# Altium integrated library National Semiconductor Interface.IntLib: 1433 symbols (part 9 of 51)
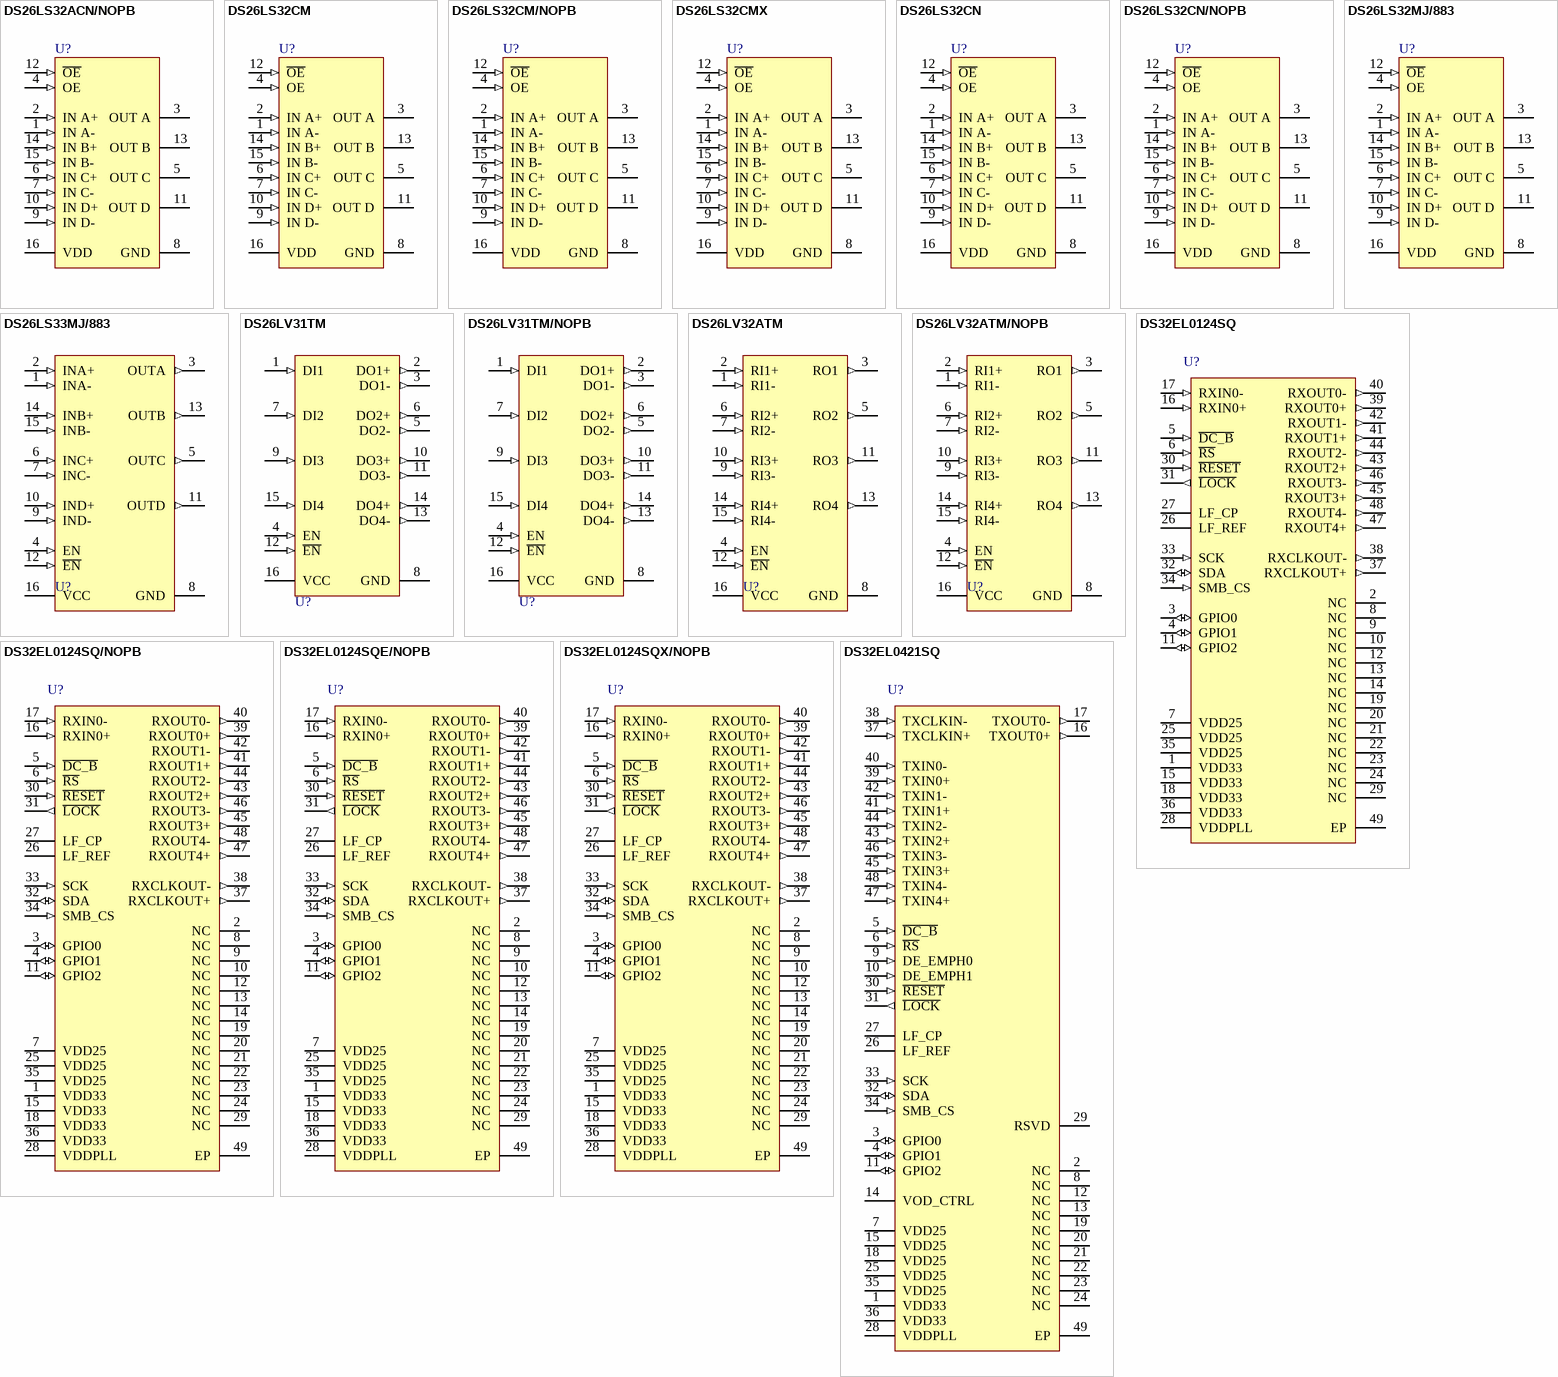
[diagram p132: symbols DS26LS32ACN/NOPB to DS32EL0421SQ]

## DS26LV32ATM
designator U?
3V Enhanced CMOS Quad Differential Line Receiver, 16-pin Narrow SOIC; PartNumber: DS26LV32ATM; Manufacturer: National Semiconductor; PackageTopMarking: NSUZXYTTE#*DS26LV32A*TM; PowerWise: N; CompType: Interface IC; High-Reliability: Y; DatasheetVersion: Apr-2008; PackageVersion: revJ, Aug-1995; PackageReference: M16A; PackageDescription: Molded Package, SO, .150in Wide, 16 Lead; RoHS: N; PinCount: 16; Code_JEDEC: MS-012-AC; Code_IPC: SOIC127P600-16; ComponentLink1Description: Manufacturer URL; ComponentLink1URL: http://www.national.com/; ComponentLink2Description: DS26LV32AT Datasheet; ComponentLink2URL: http://www.national.com/ds/DS/DS26LV32AT.pdf; ComponentLink3Description: DS26LV32AT Web Page; ComponentLink3URL: http://www.national.com/pf/DS/DS26LV32AT.html; ComponentLink4Description: M16A Package Page; ComponentLink4URL: http://www.national.com/packaging/folders/m16a.html
footprint M16A_N (SOIC, 16-Leads, Body 9.9x3.9mm, Pitch 1.27mm, IPC Medium Density)
footprint M16A_L (SOIC, 16-Leads, Body 9.9x3.9mm, Pitch 1.27mm, IPC High Density)
footprint M16A_M (SOIC, 16-Leads, Body 9.9x3.9mm, Pitch 1.27mm, IPC Low Density)
pins: 1 RI1- (in), 2 RI1+ (in), 3 RO1 (out), 4 EN (in), 5 RO2 (out), 6 RI2+ (in), 7 RI2- (in), 8 GND (power), 9 RI3- (in), 10 RI3+ (in), 11 RO3 (out), 12 ~{EN} (in), 13 RO4 (out), 14 RI4+ (in), 15 RI4- (in), 16 VCC (power)

## DS26LV32ATM/NOPB
designator U?
3V Enhanced CMOS Quad Differential Line Receiver, 16-pin Narrow SOIC, Pb-Free; PartNumber: DS26LV32ATM/NOPB; Manufacturer: National Semiconductor; PackageTopMarking: NSUZXYTTE#*DS26LV32A*TM; PowerWise: N; CompType: Interface IC; High-Reliability: Y; DatasheetVersion: Apr-2008; PackageVersion: revJ, Aug-1995; PackageReference: M16A; PackageDescription: Molded Package, SO, .150in Wide, 16 Lead; RoHS: Y; PinCount: 16; Code_JEDEC: MS-012-AC; Code_IPC: SOIC127P600-16; ComponentLink1Description: Manufacturer URL; ComponentLink1URL: http://www.national.com/; ComponentLink2Description: DS26LV32AT Datasheet; ComponentLink2URL: http://www.national.com/ds/DS/DS26LV32AT.pdf; ComponentLink3Description: DS26LV32AT Web Page; ComponentLink3URL: http://www.national.com/pf/DS/DS26LV32AT.html; ComponentLink4Description: M16A Package Page; ComponentLink4URL: http://www.national.com/packaging/folders/m16a.html
footprint M16A_N (SOIC, 16-Leads, Body 9.9x3.9mm, Pitch 1.27mm, IPC Medium Density)
footprint M16A_L (SOIC, 16-Leads, Body 9.9x3.9mm, Pitch 1.27mm, IPC High Density)
footprint M16A_M (SOIC, 16-Leads, Body 9.9x3.9mm, Pitch 1.27mm, IPC Low Density)
pins: 1 RI1- (in), 2 RI1+ (in), 3 RO1 (out), 4 EN (in), 5 RO2 (out), 6 RI2+ (in), 7 RI2- (in), 8 GND (power), 9 RI3- (in), 10 RI3+ (in), 11 RO3 (out), 12 ~{EN} (in), 13 RO4 (out), 14 RI4+ (in), 15 RI4- (in), 16 VCC (power)

## DS32EL0124SQ
designator U?
125 - 312.5 MHz Deserializer with DDR LVDS Parallel Interface, 48-pin LLP; PartNumber: DS32EL0124SQ; Manufacturer: National Semiconductor; PackageTopMarking: NS*UZXYTT*32EL0124; PowerWise: N; CompType: Interface IC; High-Reliability: Y; DatasheetVersion: Jul-2008; PackageVersion: revB, May-2009; PackageReference: SQA48A; PackageDescription: LLP, Plastic, Quad, 7 x 7 x 0.8mm Body, 48 Lead, 0.5mm Pitch, No Pullback; RoHS: Y; PinCount: 48; Code_JEDEC: MO-220-WKKD-2; ComponentLink1Description: Manufacturer URL; ComponentLink1URL: http://www.national.com/; ComponentLink2Description: DS32EL0124 Datasheet; ComponentLink2URL: http://www.national.com/ds/DS/DS32EL0124.pdf; ComponentLink3Description: DS32EL0124 Web Page; ComponentLink3URL: http://www.national.com/pf/DS/DS32EL0124.html; ComponentLink4Description: SQA48A Package Page; ComponentLink4URL: http://www.national.com/packaging/folders/sqa48a.html
footprint SQA48A (QFN, 48-Leads, Body 7x7mm, Pitch 0.5mm, Thermal Pad 5.2x5.2mm, NSC Recommended)
pins: 1 VDD33 (power), 2 NC, 3 GPIO0 (io), 4 GPIO1 (io), 5 ~{DC_B} (in), 6 ~{RS} (in), 7 VDD25 (power), 8 NC, 9 NC, 10 NC, 11 GPIO2 (io), 12 NC, 13 NC, 14 NC, 15 VDD33 (power), 16 RXIN0+ (in), 17 RXIN0- (in), 18 VDD33 (power), 19 NC, 20 NC, 21 NC, 22 NC, 23 NC, 24 NC, 25 VDD25 (power), 26 LF_REF, 27 LF_CP, 28 VDDPLL (power), 29 NC, 30 ~{RESET} (in), 31 ~{LOCK} (out), 32 SDA (io), 33 SCK (in), 34 SMB_CS (in), 35 VDD25 (power), 36 VDD33 (power), 37 RXCLKOUT+ (out), 38 RXCLKOUT- (out), 39 RXOUT0+ (out), 40 RXOUT0- (out), 41 RXOUT1+ (out), 42 RXOUT1- (out), 43 RXOUT2+ (out), 44 RXOUT2- (out), 45 RXOUT3+ (out), 46 RXOUT3- (out), 47 RXOUT4+ (out), 48 RXOUT4- (out), 49 EP (power)

## DS32EL0124SQ/NOPB
designator U?
125 - 312.5 MHz Deserializer with DDR LVDS Parallel Interface, 48-pin LLP, Pb-Free; PartNumber: DS32EL0124SQ/NOPB; Manufacturer: National Semiconductor; PackageTopMarking: NS*UZXYTTE#*32EL0124; PowerWise: N; CompType: Interface IC; High-Reliability: Y; DatasheetVersion: Jul-2008; PackageVersion: revB, May-2009; PackageReference: SQA48A; PackageDescription: LLP, Plastic, Quad, 7 x 7 x 0.8mm Body, 48 Lead, 0.5mm Pitch, No Pullback; RoHS: Y; PinCount: 48; Code_JEDEC: MO-220-WKKD-2; ComponentLink1Description: Manufacturer URL; ComponentLink1URL: http://www.national.com/; ComponentLink2Description: DS32EL0124 Datasheet; ComponentLink2URL: http://www.national.com/ds/DS/DS32EL0124.pdf; ComponentLink3Description: DS32EL0124 Web Page; ComponentLink3URL: http://www.national.com/pf/DS/DS32EL0124.html; ComponentLink4Description: SQA48A Package Page; ComponentLink4URL: http://www.national.com/packaging/folders/sqa48a.html
footprint SQA48A (QFN, 48-Leads, Body 7x7mm, Pitch 0.5mm, Thermal Pad 5.2x5.2mm, NSC Recommended)
pins: 1 VDD33 (power), 2 NC, 3 GPIO0 (io), 4 GPIO1 (io), 5 ~{DC_B} (in), 6 ~{RS} (in), 7 VDD25 (power), 8 NC, 9 NC, 10 NC, 11 GPIO2 (io), 12 NC, 13 NC, 14 NC, 15 VDD33 (power), 16 RXIN0+ (in), 17 RXIN0- (in), 18 VDD33 (power), 19 NC, 20 NC, 21 NC, 22 NC, 23 NC, 24 NC, 25 VDD25 (power), 26 LF_REF, 27 LF_CP, 28 VDDPLL (power), 29 NC, 30 ~{RESET} (in), 31 ~{LOCK} (out), 32 SDA (io), 33 SCK (in), 34 SMB_CS (in), 35 VDD25 (power), 36 VDD33 (power), 37 RXCLKOUT+ (out), 38 RXCLKOUT- (out), 39 RXOUT0+ (out), 40 RXOUT0- (out), 41 RXOUT1+ (out), 42 RXOUT1- (out), 43 RXOUT2+ (out), 44 RXOUT2- (out), 45 RXOUT3+ (out), 46 RXOUT3- (out), 47 RXOUT4+ (out), 48 RXOUT4- (out), 49 EP (power)

## DS32EL0124SQE/NOPB
designator U?
125 - 312.5 MHz Deserializer with DDR LVDS Parallel Interface, 48-pin LLP, Pb-Free; PartNumber: DS32EL0124SQE/NOPB; Manufacturer: National Semiconductor; PackageTopMarking: NS*UZXYTTE#*32EL0124; PowerWise: N; CompType: Interface IC; High-Reliability: Y; DatasheetVersion: Jul-2008; PackageVersion: revB, May-2009; PackageReference: SQA48A; PackageDescription: LLP, Plastic, Quad, 7 x 7 x 0.8mm Body, 48 Lead, 0.5mm Pitch, No Pullback; RoHS: Y; PinCount: 48; Code_JEDEC: MO-220-WKKD-2; ComponentLink1Description: Manufacturer URL; ComponentLink1URL: http://www.national.com/; ComponentLink2Description: DS32EL0124 Datasheet; ComponentLink2URL: http://www.national.com/ds/DS/DS32EL0124.pdf; ComponentLink3Description: DS32EL0124 Web Page; ComponentLink3URL: http://www.national.com/pf/DS/DS32EL0124.html; ComponentLink4Description: SQA48A Package Page; ComponentLink4URL: http://www.national.com/packaging/folders/sqa48a.html
footprint SQA48A (QFN, 48-Leads, Body 7x7mm, Pitch 0.5mm, Thermal Pad 5.2x5.2mm, NSC Recommended)
pins: 1 VDD33 (power), 2 NC, 3 GPIO0 (io), 4 GPIO1 (io), 5 ~{DC_B} (in), 6 ~{RS} (in), 7 VDD25 (power), 8 NC, 9 NC, 10 NC, 11 GPIO2 (io), 12 NC, 13 NC, 14 NC, 15 VDD33 (power), 16 RXIN0+ (in), 17 RXIN0- (in), 18 VDD33 (power), 19 NC, 20 NC, 21 NC, 22 NC, 23 NC, 24 NC, 25 VDD25 (power), 26 LF_REF, 27 LF_CP, 28 VDDPLL (power), 29 NC, 30 ~{RESET} (in), 31 ~{LOCK} (out), 32 SDA (io), 33 SCK (in), 34 SMB_CS (in), 35 VDD25 (power), 36 VDD33 (power), 37 RXCLKOUT+ (out), 38 RXCLKOUT- (out), 39 RXOUT0+ (out), 40 RXOUT0- (out), 41 RXOUT1+ (out), 42 RXOUT1- (out), 43 RXOUT2+ (out), 44 RXOUT2- (out), 45 RXOUT3+ (out), 46 RXOUT3- (out), 47 RXOUT4+ (out), 48 RXOUT4- (out), 49 EP (power)

## DS32EL0124SQX/NOPB
designator U?
125 - 312.5 MHz Deserializer with DDR LVDS Parallel Interface, 48-pin LLP, Pb-Free; PartNumber: DS32EL0124SQX/NOPB; Manufacturer: National Semiconductor; PackageTopMarking: NS*UZXYTTE#*32EL0124; PowerWise: N; CompType: Interface IC; High-Reliability: Y; DatasheetVersion: Jul-2008; PackageVersion: revB, May-2009; PackageReference: SQA48A; PackageDescription: LLP, Plastic, Quad, 7 x 7 x 0.8mm Body, 48 Lead, 0.5mm Pitch, No Pullback; RoHS: Y; PinCount: 48; Code_JEDEC: MO-220-WKKD-2; ComponentLink1Description: Manufacturer URL; ComponentLink1URL: http://www.national.com/; ComponentLink2Description: DS32EL0124 Datasheet; ComponentLink2URL: http://www.national.com/ds/DS/DS32EL0124.pdf; ComponentLink3Description: DS32EL0124 Web Page; ComponentLink3URL: http://www.national.com/pf/DS/DS32EL0124.html; ComponentLink4Description: SQA48A Package Page; ComponentLink4URL: http://www.national.com/packaging/folders/sqa48a.html
footprint SQA48A (QFN, 48-Leads, Body 7x7mm, Pitch 0.5mm, Thermal Pad 5.2x5.2mm, NSC Recommended)
pins: 1 VDD33 (power), 2 NC, 3 GPIO0 (io), 4 GPIO1 (io), 5 ~{DC_B} (in), 6 ~{RS} (in), 7 VDD25 (power), 8 NC, 9 NC, 10 NC, 11 GPIO2 (io), 12 NC, 13 NC, 14 NC, 15 VDD33 (power), 16 RXIN0+ (in), 17 RXIN0- (in), 18 VDD33 (power), 19 NC, 20 NC, 21 NC, 22 NC, 23 NC, 24 NC, 25 VDD25 (power), 26 LF_REF, 27 LF_CP, 28 VDDPLL (power), 29 NC, 30 ~{RESET} (in), 31 ~{LOCK} (out), 32 SDA (io), 33 SCK (in), 34 SMB_CS (in), 35 VDD25 (power), 36 VDD33 (power), 37 RXCLKOUT+ (out), 38 RXCLKOUT- (out), 39 RXOUT0+ (out), 40 RXOUT0- (out), 41 RXOUT1+ (out), 42 RXOUT1- (out), 43 RXOUT2+ (out), 44 RXOUT2- (out), 45 RXOUT3+ (out), 46 RXOUT3- (out), 47 RXOUT4+ (out), 48 RXOUT4- (out), 49 EP (power)

## DS32EL0421SQ
designator U?
125 - 312.5 MHz Serializer with DDR LVDS Parallel LVDS Interface, 48-pin LLP; PartNumber: DS32EL0421SQ; Manufacturer: National Semiconductor; PackageTopMarking: NS*UZXYTT*32EL0421; PowerWise: N; CompType: Interface IC; High-Reliability: Y; DatasheetVersion: Jul-2008; PackageVersion: revB, May-2009; PackageReference: SQA48A; PackageDescription: LLP, Plastic, Quad, 7 x 7 x 0.8mm Body, 48 Lead, 0.5mm Pitch, No Pullback; RoHS: Y; PinCount: 48; Code_JEDEC: MO-220-WKKD-2; ComponentLink1Description: Manufacturer URL; ComponentLink1URL: http://www.national.com/; ComponentLink2Description: DS32EL0421 Datasheet; ComponentLink2URL: http://www.national.com/ds/DS/DS32EL0421.pdf; ComponentLink3Description: DS32EL0421 Web Page; ComponentLink3URL: http://www.national.com/pf/DS/DS32EL0421.html; ComponentLink4Description: SQA48A Package Page; ComponentLink4URL: http://www.national.com/packaging/folders/sqa48a.html
footprint SQA48A (QFN, 48-Leads, Body 7x7mm, Pitch 0.5mm, Thermal Pad 5.2x5.2mm, NSC Recommended)
pins: 1 VDD33 (power), 2 NC, 3 GPIO0 (io), 4 GPIO1 (io), 5 ~{DC_B} (in), 6 ~{RS} (in), 7 VDD25 (power), 8 NC, 9 DE_EMPH0 (in), 10 DE_EMPH1 (in), 11 GPIO2 (io), 12 NC, 13 NC, 14 VOD_CTRL, 15 VDD25 (power), 16 TXOUT0+ (out), 17 TXOUT0- (out), 18 VDD25 (power), 19 NC, 20 NC, 21 NC, 22 NC, 23 NC, 24 NC, 25 VDD25 (power), 26 LF_REF, 27 LF_CP, 28 VDDPLL (power), 29 RSVD, 30 ~{RESET} (in), 31 ~{LOCK} (out), 32 SDA (io), 33 SCK (in), 34 SMB_CS (in), 35 VDD25 (power), 36 VDD33 (power), 37 TXCLKIN+ (in), 38 TXCLKIN- (in), 39 TXIN0+ (in), 40 TXIN0- (in), 41 TXIN1+ (in), 42 TXIN1- (in), 43 TXIN2+ (in), 44 TXIN2- (in), 45 TXIN3+ (in), 46 TXIN3- (in), 47 TXIN4+ (in), 48 TXIN4- (in), 49 EP (power)

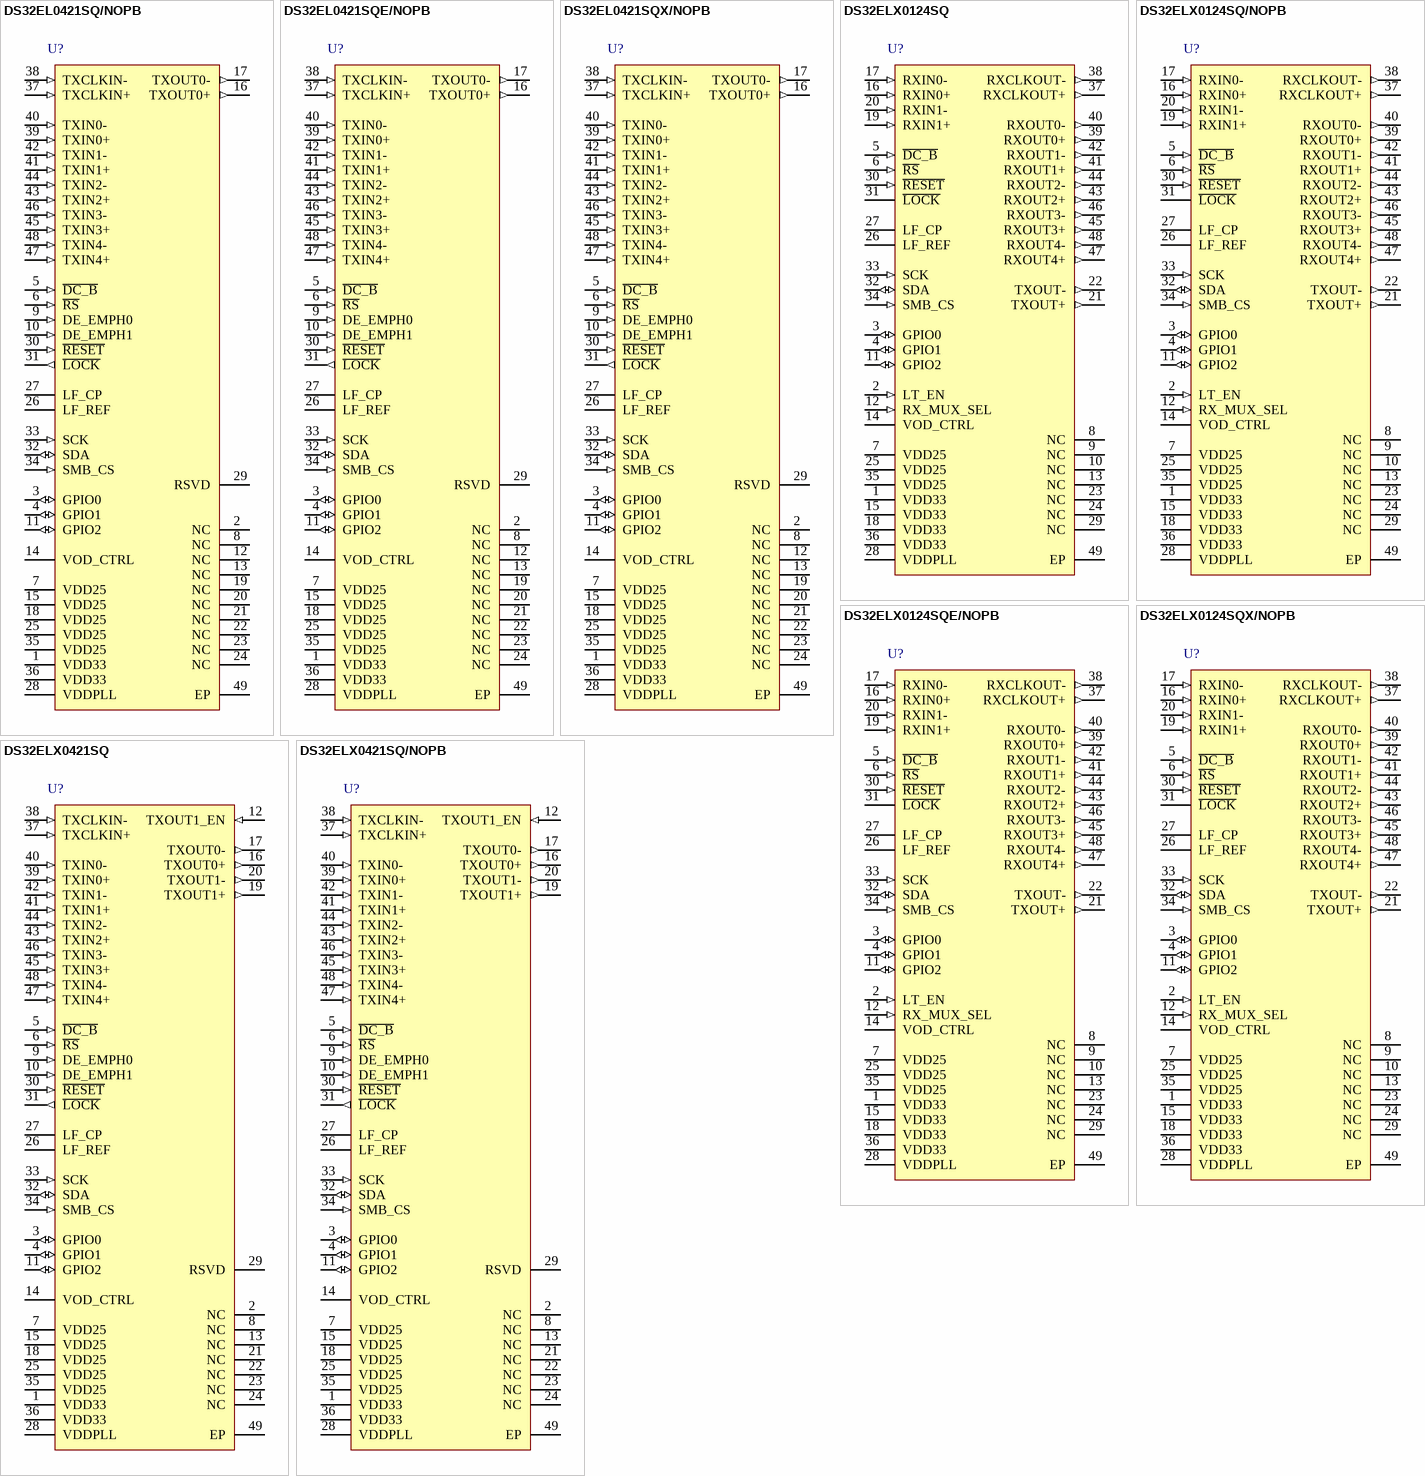
[diagram p23: symbols DS32EL0421SQ/NOPB to DS32ELX0421SQ/NOPB]

## DS32EL0421SQ/NOPB
designator U?
125 - 312.5 MHz FPGA-Link Serializer with DDR LVDS Parallel Interface, 48-pin LLP, Pb-Free; PartNumber: DS32EL0421SQ/NOPB; Manufacturer: National Semiconductor; PackageTopMarking: NS*UZXYTTE#*32EL0421; PowerWise: N; CompType: Interface IC; High-Reliability: Y; DatasheetVersion: Jul-2008; PackageVersion: revB, May-2009; PackageReference: SQA48A; PackageDescription: LLP, Plastic, Quad, 7 x 7 x 0.8mm Body, 48 Lead, 0.5mm Pitch, No Pullback; RoHS: Y; PinCount: 48; Code_JEDEC: MO-220-WKKD-2; ComponentLink1Description: Manufacturer URL; ComponentLink1URL: http://www.national.com/; ComponentLink2Description: DS32EL0421 Datasheet; ComponentLink2URL: http://www.national.com/ds/DS/DS32EL0421.pdf; ComponentLink3Description: DS32EL0421 Web Page; ComponentLink3URL: http://www.national.com/pf/DS/DS32EL0421.html; ComponentLink4Description: SQA48A Package Page; ComponentLink4URL: http://www.national.com/packaging/folders/sqa48a.html
footprint SQA48A (QFN, 48-Leads, Body 7x7mm, Pitch 0.5mm, Thermal Pad 5.2x5.2mm, NSC Recommended)
pins: 1 VDD33 (power), 2 NC, 3 GPIO0 (io), 4 GPIO1 (io), 5 ~{DC_B} (in), 6 ~{RS} (in), 7 VDD25 (power), 8 NC, 9 DE_EMPH0 (in), 10 DE_EMPH1 (in), 11 GPIO2 (io), 12 NC, 13 NC, 14 VOD_CTRL, 15 VDD25 (power), 16 TXOUT0+ (out), 17 TXOUT0- (out), 18 VDD25 (power), 19 NC, 20 NC, 21 NC, 22 NC, 23 NC, 24 NC, 25 VDD25 (power), 26 LF_REF, 27 LF_CP, 28 VDDPLL (power), 29 RSVD, 30 ~{RESET} (in), 31 ~{LOCK} (out), 32 SDA (io), 33 SCK (in), 34 SMB_CS (in), 35 VDD25 (power), 36 VDD33 (power), 37 TXCLKIN+ (in), 38 TXCLKIN- (in), 39 TXIN0+ (in), 40 TXIN0- (in), 41 TXIN1+ (in), 42 TXIN1- (in), 43 TXIN2+ (in), 44 TXIN2- (in), 45 TXIN3+ (in), 46 TXIN3- (in), 47 TXIN4+ (in), 48 TXIN4- (in), 49 EP (power)

## DS32EL0421SQE/NOPB
designator U?
125 - 312.5 MHz FPGA-Link Serializer with DDR LVDS Parallel Interface, 48-pin LLP, Pb-Free; PartNumber: DS32EL0421SQE/NOPB; Manufacturer: National Semiconductor; PackageTopMarking: NS*UZXYTTE#*32EL0421; PowerWise: N; CompType: Interface IC; High-Reliability: Y; DatasheetVersion: Jul-2008; PackageVersion: revB, May-2009; PackageReference: SQA48A; PackageDescription: LLP, Plastic, Quad, 7 x 7 x 0.8mm Body, 48 Lead, 0.5mm Pitch, No Pullback; RoHS: Y; PinCount: 48; Code_JEDEC: MO-220-WKKD-2; ComponentLink1Description: Manufacturer URL; ComponentLink1URL: http://www.national.com/; ComponentLink2Description: DS32EL0421 Datasheet; ComponentLink2URL: http://www.national.com/ds/DS/DS32EL0421.pdf; ComponentLink3Description: DS32EL0421 Web Page; ComponentLink3URL: http://www.national.com/pf/DS/DS32EL0421.html; ComponentLink4Description: SQA48A Package Page; ComponentLink4URL: http://www.national.com/packaging/folders/sqa48a.html
footprint SQA48A (QFN, 48-Leads, Body 7x7mm, Pitch 0.5mm, Thermal Pad 5.2x5.2mm, NSC Recommended)
pins: 1 VDD33 (power), 2 NC, 3 GPIO0 (io), 4 GPIO1 (io), 5 ~{DC_B} (in), 6 ~{RS} (in), 7 VDD25 (power), 8 NC, 9 DE_EMPH0 (in), 10 DE_EMPH1 (in), 11 GPIO2 (io), 12 NC, 13 NC, 14 VOD_CTRL, 15 VDD25 (power), 16 TXOUT0+ (out), 17 TXOUT0- (out), 18 VDD25 (power), 19 NC, 20 NC, 21 NC, 22 NC, 23 NC, 24 NC, 25 VDD25 (power), 26 LF_REF, 27 LF_CP, 28 VDDPLL (power), 29 RSVD, 30 ~{RESET} (in), 31 ~{LOCK} (out), 32 SDA (io), 33 SCK (in), 34 SMB_CS (in), 35 VDD25 (power), 36 VDD33 (power), 37 TXCLKIN+ (in), 38 TXCLKIN- (in), 39 TXIN0+ (in), 40 TXIN0- (in), 41 TXIN1+ (in), 42 TXIN1- (in), 43 TXIN2+ (in), 44 TXIN2- (in), 45 TXIN3+ (in), 46 TXIN3- (in), 47 TXIN4+ (in), 48 TXIN4- (in), 49 EP (power)

## DS32EL0421SQX/NOPB
designator U?
125 - 312.5 MHz FPGA-Link Serializer with DDR LVDS Parallel Interface, 48-pin LLP, Pb-Free; PartNumber: DS32EL0421SQX/NOPB; Manufacturer: National Semiconductor; PackageTopMarking: NS*UZXYTTE#*32EL0421; PowerWise: N; CompType: Interface IC; High-Reliability: Y; DatasheetVersion: Jul-2008; PackageVersion: revB, May-2009; PackageReference: SQA48A; PackageDescription: LLP, Plastic, Quad, 7 x 7 x 0.8mm Body, 48 Lead, 0.5mm Pitch, No Pullback; RoHS: Y; PinCount: 48; Code_JEDEC: MO-220-WKKD-2; ComponentLink1Description: Manufacturer URL; ComponentLink1URL: http://www.national.com/; ComponentLink2Description: DS32EL0421 Datasheet; ComponentLink2URL: http://www.national.com/ds/DS/DS32EL0421.pdf; ComponentLink3Description: DS32EL0421 Web Page; ComponentLink3URL: http://www.national.com/pf/DS/DS32EL0421.html; ComponentLink4Description: SQA48A Package Page; ComponentLink4URL: http://www.national.com/packaging/folders/sqa48a.html
footprint SQA48A (QFN, 48-Leads, Body 7x7mm, Pitch 0.5mm, Thermal Pad 5.2x5.2mm, NSC Recommended)
pins: 1 VDD33 (power), 2 NC, 3 GPIO0 (io), 4 GPIO1 (io), 5 ~{DC_B} (in), 6 ~{RS} (in), 7 VDD25 (power), 8 NC, 9 DE_EMPH0 (in), 10 DE_EMPH1 (in), 11 GPIO2 (io), 12 NC, 13 NC, 14 VOD_CTRL, 15 VDD25 (power), 16 TXOUT0+ (out), 17 TXOUT0- (out), 18 VDD25 (power), 19 NC, 20 NC, 21 NC, 22 NC, 23 NC, 24 NC, 25 VDD25 (power), 26 LF_REF, 27 LF_CP, 28 VDDPLL (power), 29 RSVD, 30 ~{RESET} (in), 31 ~{LOCK} (out), 32 SDA (io), 33 SCK (in), 34 SMB_CS (in), 35 VDD25 (power), 36 VDD33 (power), 37 TXCLKIN+ (in), 38 TXCLKIN- (in), 39 TXIN0+ (in), 40 TXIN0- (in), 41 TXIN1+ (in), 42 TXIN1- (in), 43 TXIN2+ (in), 44 TXIN2- (in), 45 TXIN3+ (in), 46 TXIN3- (in), 47 TXIN4+ (in), 48 TXIN4- (in), 49 EP (power)

## DS32ELX0124SQ
designator U?
125 - 312.5 MHz Deserializer with DDR LVDS Parallel Interface, 48-pin LLP; PartNumber: DS32ELX0124SQ; Manufacturer: National Semiconductor; PackageTopMarking: NS*UZXYTT*32ELX0124; PowerWise: N; CompType: Interface IC; High-Reliability: Y; DatasheetVersion: Jul-2008; PackageVersion: revB, May-2009; PackageReference: SQA48A; PackageDescription: LLP, Plastic, Quad, 7 x 7 x 0.8mm Body, 48 Lead, 0.5mm Pitch, No Pullback; RoHS: Y; PinCount: 48; Code_JEDEC: MO-220-WKKD-2; ComponentLink1Description: Manufacturer URL; ComponentLink1URL: http://www.national.com/; ComponentLink2Description: DS32ELX0124 Datasheet; ComponentLink2URL: http://www.national.com/ds/DS/DS32ELX0124.pdf; ComponentLink3Description: DS32ELX0124 Web Page; ComponentLink3URL: http://www.national.com/pf/DS/DS32ELX0124.html; ComponentLink4Description: SQA48A Package Page; ComponentLink4URL: http://www.national.com/packaging/folders/sqa48a.html
footprint SQA48A (QFN, 48-Leads, Body 7x7mm, Pitch 0.5mm, Thermal Pad 5.2x5.2mm, NSC Recommended)
pins: 1 VDD33 (power), 2 LT_EN (in), 3 GPIO0 (io), 4 GPIO1 (io), 5 ~{DC_B} (in), 6 ~{RS} (in), 7 VDD25 (power), 8 NC, 9 NC, 10 NC, 11 GPIO2 (io), 12 RX_MUX_SEL (in), 13 NC, 14 VOD_CTRL, 15 VDD33 (power), 16 RXIN0+ (in), 17 RXIN0- (in), 18 VDD33 (power), 19 RXIN1+ (in), 20 RXIN1- (in), 21 TXOUT+ (out), 22 TXOUT- (out), 23 NC, 24 NC, 25 VDD25 (power), 26 LF_REF, 27 LF_CP, 28 VDDPLL (power), 29 NC, 30 ~{RESET} (in), 31 ~{LOCK} (oc), 32 SDA (io), 33 SCK (in), 34 SMB_CS (in), 35 VDD25 (power), 36 VDD33 (power), 37 RXCLKOUT+ (out), 38 RXCLKOUT- (out), 39 RXOUT0+ (out), 40 RXOUT0- (out), 41 RXOUT1+ (out), 42 RXOUT1- (out), 43 RXOUT2+ (out), 44 RXOUT2- (out), 45 RXOUT3+ (out), 46 RXOUT3- (out), 47 RXOUT4+ (out), 48 RXOUT4- (out), 49 EP (power)

## DS32ELX0124SQ/NOPB
designator U?
125 - 312.5 MHz Deserializer with DDR LVDS Parallel Interface, 48-pin LLP, Pb-Free; PartNumber: DS32ELX0124SQ/NOPB; Manufacturer: National Semiconductor; PackageTopMarking: NS*UZXYTTE#*32ELX0124; PowerWise: N; CompType: Interface IC; High-Reliability: Y; DatasheetVersion: Jul-2008; PackageVersion: revB, May-2009; PackageReference: SQA48A; PackageDescription: LLP, Plastic, Quad, 7 x 7 x 0.8mm Body, 48 Lead, 0.5mm Pitch, No Pullback; RoHS: Y; PinCount: 48; Code_JEDEC: MO-220-WKKD-2; ComponentLink1Description: Manufacturer URL; ComponentLink1URL: http://www.national.com/; ComponentLink2Description: DS32ELX0124 Datasheet; ComponentLink2URL: http://www.national.com/ds/DS/DS32ELX0124.pdf; ComponentLink3Description: DS32ELX0124 Web Page; ComponentLink3URL: http://www.national.com/pf/DS/DS32ELX0124.html; ComponentLink4Description: SQA48A Package Page; ComponentLink4URL: http://www.national.com/packaging/folders/sqa48a.html
footprint SQA48A (QFN, 48-Leads, Body 7x7mm, Pitch 0.5mm, Thermal Pad 5.2x5.2mm, NSC Recommended)
pins: 1 VDD33 (power), 2 LT_EN (in), 3 GPIO0 (io), 4 GPIO1 (io), 5 ~{DC_B} (in), 6 ~{RS} (in), 7 VDD25 (power), 8 NC, 9 NC, 10 NC, 11 GPIO2 (io), 12 RX_MUX_SEL (in), 13 NC, 14 VOD_CTRL, 15 VDD33 (power), 16 RXIN0+ (in), 17 RXIN0- (in), 18 VDD33 (power), 19 RXIN1+ (in), 20 RXIN1- (in), 21 TXOUT+ (out), 22 TXOUT- (out), 23 NC, 24 NC, 25 VDD25 (power), 26 LF_REF, 27 LF_CP, 28 VDDPLL (power), 29 NC, 30 ~{RESET} (in), 31 ~{LOCK} (oc), 32 SDA (io), 33 SCK (in), 34 SMB_CS (in), 35 VDD25 (power), 36 VDD33 (power), 37 RXCLKOUT+ (out), 38 RXCLKOUT- (out), 39 RXOUT0+ (out), 40 RXOUT0- (out), 41 RXOUT1+ (out), 42 RXOUT1- (out), 43 RXOUT2+ (out), 44 RXOUT2- (out), 45 RXOUT3+ (out), 46 RXOUT3- (out), 47 RXOUT4+ (out), 48 RXOUT4- (out), 49 EP (power)

## DS32ELX0124SQE/NOPB
designator U?
125 - 312.5 MHz Deserializer with DDR LVDS Parallel Interface, 48-pin LLP, Pb-Free; PartNumber: DS32ELX0124SQE/NOPB; Manufacturer: National Semiconductor; PackageTopMarking: NS*UZXYTTE#*32ELX0124; PowerWise: N; CompType: Interface IC; High-Reliability: Y; DatasheetVersion: Jul-2008; PackageVersion: revB, May-2009; PackageReference: SQA48A; PackageDescription: LLP, Plastic, Quad, 7 x 7 x 0.8mm Body, 48 Lead, 0.5mm Pitch, No Pullback; RoHS: Y; PinCount: 48; Code_JEDEC: MO-220-WKKD-2; ComponentLink1Description: Manufacturer URL; ComponentLink1URL: http://www.national.com/; ComponentLink2Description: DS32ELX0124 Datasheet; ComponentLink2URL: http://www.national.com/ds/DS/DS32ELX0124.pdf; ComponentLink3Description: DS32ELX0124 Web Page; ComponentLink3URL: http://www.national.com/pf/DS/DS32ELX0124.html; ComponentLink4Description: SQA48A Package Page; ComponentLink4URL: http://www.national.com/packaging/folders/sqa48a.html
footprint SQA48A (QFN, 48-Leads, Body 7x7mm, Pitch 0.5mm, Thermal Pad 5.2x5.2mm, NSC Recommended)
pins: 1 VDD33 (power), 2 LT_EN (in), 3 GPIO0 (io), 4 GPIO1 (io), 5 ~{DC_B} (in), 6 ~{RS} (in), 7 VDD25 (power), 8 NC, 9 NC, 10 NC, 11 GPIO2 (io), 12 RX_MUX_SEL (in), 13 NC, 14 VOD_CTRL, 15 VDD33 (power), 16 RXIN0+ (in), 17 RXIN0- (in), 18 VDD33 (power), 19 RXIN1+ (in), 20 RXIN1- (in), 21 TXOUT+ (out), 22 TXOUT- (out), 23 NC, 24 NC, 25 VDD25 (power), 26 LF_REF, 27 LF_CP, 28 VDDPLL (power), 29 NC, 30 ~{RESET} (in), 31 ~{LOCK} (oc), 32 SDA (io), 33 SCK (in), 34 SMB_CS (in), 35 VDD25 (power), 36 VDD33 (power), 37 RXCLKOUT+ (out), 38 RXCLKOUT- (out), 39 RXOUT0+ (out), 40 RXOUT0- (out), 41 RXOUT1+ (out), 42 RXOUT1- (out), 43 RXOUT2+ (out), 44 RXOUT2- (out), 45 RXOUT3+ (out), 46 RXOUT3- (out), 47 RXOUT4+ (out), 48 RXOUT4- (out), 49 EP (power)

## DS32ELX0124SQX/NOPB
designator U?
125 - 312.5 MHz Deserializer with DDR LVDS Parallel Interface, 48-pin LLP, Pb-Free; PartNumber: DS32ELX0124SQX/NOPB; Manufacturer: National Semiconductor; PackageTopMarking: NS*UZXYTTE#*32ELX0124; PowerWise: N; CompType: Interface IC; High-Reliability: Y; DatasheetVersion: Jul-2008; PackageVersion: revB, May-2009; PackageReference: SQA48A; PackageDescription: LLP, Plastic, Quad, 7 x 7 x 0.8mm Body, 48 Lead, 0.5mm Pitch, No Pullback; RoHS: Y; PinCount: 48; Code_JEDEC: MO-220-WKKD-2; ComponentLink1Description: Manufacturer URL; ComponentLink1URL: http://www.national.com/; ComponentLink2Description: DS32ELX0124 Datasheet; ComponentLink2URL: http://www.national.com/ds/DS/DS32ELX0124.pdf; ComponentLink3Description: DS32ELX0124 Web Page; ComponentLink3URL: http://www.national.com/pf/DS/DS32ELX0124.html; ComponentLink4Description: SQA48A Package Page; ComponentLink4URL: http://www.national.com/packaging/folders/sqa48a.html
footprint SQA48A (QFN, 48-Leads, Body 7x7mm, Pitch 0.5mm, Thermal Pad 5.2x5.2mm, NSC Recommended)
pins: 1 VDD33 (power), 2 LT_EN (in), 3 GPIO0 (io), 4 GPIO1 (io), 5 ~{DC_B} (in), 6 ~{RS} (in), 7 VDD25 (power), 8 NC, 9 NC, 10 NC, 11 GPIO2 (io), 12 RX_MUX_SEL (in), 13 NC, 14 VOD_CTRL, 15 VDD33 (power), 16 RXIN0+ (in), 17 RXIN0- (in), 18 VDD33 (power), 19 RXIN1+ (in), 20 RXIN1- (in), 21 TXOUT+ (out), 22 TXOUT- (out), 23 NC, 24 NC, 25 VDD25 (power), 26 LF_REF, 27 LF_CP, 28 VDDPLL (power), 29 NC, 30 ~{RESET} (in), 31 ~{LOCK} (oc), 32 SDA (io), 33 SCK (in), 34 SMB_CS (in), 35 VDD25 (power), 36 VDD33 (power), 37 RXCLKOUT+ (out), 38 RXCLKOUT- (out), 39 RXOUT0+ (out), 40 RXOUT0- (out), 41 RXOUT1+ (out), 42 RXOUT1- (out), 43 RXOUT2+ (out), 44 RXOUT2- (out), 45 RXOUT3+ (out), 46 RXOUT3- (out), 47 RXOUT4+ (out), 48 RXOUT4- (out), 49 EP (power)

## DS32ELX0421SQ
designator U?
125 - 312.5 MHz Serializer with DDR LVDS Parallel LVDS Interface, 48-pin LLP; PartNumber: DS32ELX0421SQ; Manufacturer: National Semiconductor; PackageTopMarking: NS*UZXYTT*32ELX0421; PowerWise: N; CompType: Interface IC; High-Reliability: Y; DatasheetVersion: Jul-2008; PackageVersion: revB, May-2009; PackageReference: SQA48A; PackageDescription: LLP, Plastic, Quad, 7 x 7 x 0.8mm Body, 48 Lead, 0.5mm Pitch, No Pullback; RoHS: Y; PinCount: 48; Code_JEDEC: MO-220-WKKD-2; ComponentLink1Description: Manufacturer URL; ComponentLink1URL: http://www.national.com/; ComponentLink2Description: DS32ELX0421 Datasheet; ComponentLink2URL: http://www.national.com/ds/DS/DS32ELX0421.pdf; ComponentLink3Description: DS32ELX0421 Web Page; ComponentLink3URL: http://www.national.com/pf/DS/DS32ELX0421.html; ComponentLink4Description: SQA48A Package Page; ComponentLink4URL: http://www.national.com/packaging/folders/sqa48a.html
footprint SQA48A (QFN, 48-Leads, Body 7x7mm, Pitch 0.5mm, Thermal Pad 5.2x5.2mm, NSC Recommended)
pins: 1 VDD33 (power), 2 NC, 3 GPIO0 (io), 4 GPIO1 (io), 5 ~{DC_B} (in), 6 ~{RS} (in), 7 VDD25 (power), 8 NC, 9 DE_EMPH0 (in), 10 DE_EMPH1 (in), 11 GPIO2 (io), 12 TXOUT1_EN (in), 13 NC, 14 VOD_CTRL, 15 VDD25 (power), 16 TXOUT0+ (out), 17 TXOUT0- (out), 18 VDD25 (power), 19 TXOUT1+ (out), 20 TXOUT1- (out), 21 NC, 22 NC, 23 NC, 24 NC, 25 VDD25 (power), 26 LF_REF, 27 LF_CP, 28 VDDPLL (power), 29 RSVD, 30 ~{RESET} (in), 31 ~{LOCK} (out), 32 SDA (io), 33 SCK (in), 34 SMB_CS (in), 35 VDD25 (power), 36 VDD33 (power), 37 TXCLKIN+ (in), 38 TXCLKIN- (in), 39 TXIN0+ (in), 40 TXIN0- (in), 41 TXIN1+ (in), 42 TXIN1- (in), 43 TXIN2+ (in), 44 TXIN2- (in), 45 TXIN3+ (in), 46 TXIN3- (in), 47 TXIN4+ (in), 48 TXIN4- (in), 49 EP (power)

## DS32ELX0421SQ/NOPB
designator U?
125 - 312.5 MHz FPGA-Link Serializer with DDR LVDS Parallel Interface, 48-pin LLP, Pb-Free; PartNumber: DS32ELX0421SQ/NOPB; Manufacturer: National Semiconductor; PackageTopMarking: NS*UZXYTTE#*32ELX0421; PowerWise: N; CompType: Interface IC; High-Reliability: Y; DatasheetVersion: Jul-2008; PackageVersion: revB, May-2009; PackageReference: SQA48A; PackageDescription: LLP, Plastic, Quad, 7 x 7 x 0.8mm Body, 48 Lead, 0.5mm Pitch, No Pullback; RoHS: Y; PinCount: 48; Code_JEDEC: MO-220-WKKD-2; ComponentLink1Description: Manufacturer URL; ComponentLink1URL: http://www.national.com/; ComponentLink2Description: DS32ELX0421 Datasheet; ComponentLink2URL: http://www.national.com/ds/DS/DS32ELX0421.pdf; ComponentLink3Description: DS32ELX0421 Web Page; ComponentLink3URL: http://www.national.com/pf/DS/DS32ELX0421.html; ComponentLink4Description: SQA48A Package Page; ComponentLink4URL: http://www.national.com/packaging/folders/sqa48a.html
footprint SQA48A (QFN, 48-Leads, Body 7x7mm, Pitch 0.5mm, Thermal Pad 5.2x5.2mm, NSC Recommended)
pins: 1 VDD33 (power), 2 NC, 3 GPIO0 (io), 4 GPIO1 (io), 5 ~{DC_B} (in), 6 ~{RS} (in), 7 VDD25 (power), 8 NC, 9 DE_EMPH0 (in), 10 DE_EMPH1 (in), 11 GPIO2 (io), 12 TXOUT1_EN (in), 13 NC, 14 VOD_CTRL, 15 VDD25 (power), 16 TXOUT0+ (out), 17 TXOUT0- (out), 18 VDD25 (power), 19 TXOUT1+ (out), 20 TXOUT1- (out), 21 NC, 22 NC, 23 NC, 24 NC, 25 VDD25 (power), 26 LF_REF, 27 LF_CP, 28 VDDPLL (power), 29 RSVD, 30 ~{RESET} (in), 31 ~{LOCK} (out), 32 SDA (io), 33 SCK (in), 34 SMB_CS (in), 35 VDD25 (power), 36 VDD33 (power), 37 TXCLKIN+ (in), 38 TXCLKIN- (in), 39 TXIN0+ (in), 40 TXIN0- (in), 41 TXIN1+ (in), 42 TXIN1- (in), 43 TXIN2+ (in), 44 TXIN2- (in), 45 TXIN3+ (in), 46 TXIN3- (in), 47 TXIN4+ (in), 48 TXIN4- (in), 49 EP (power)

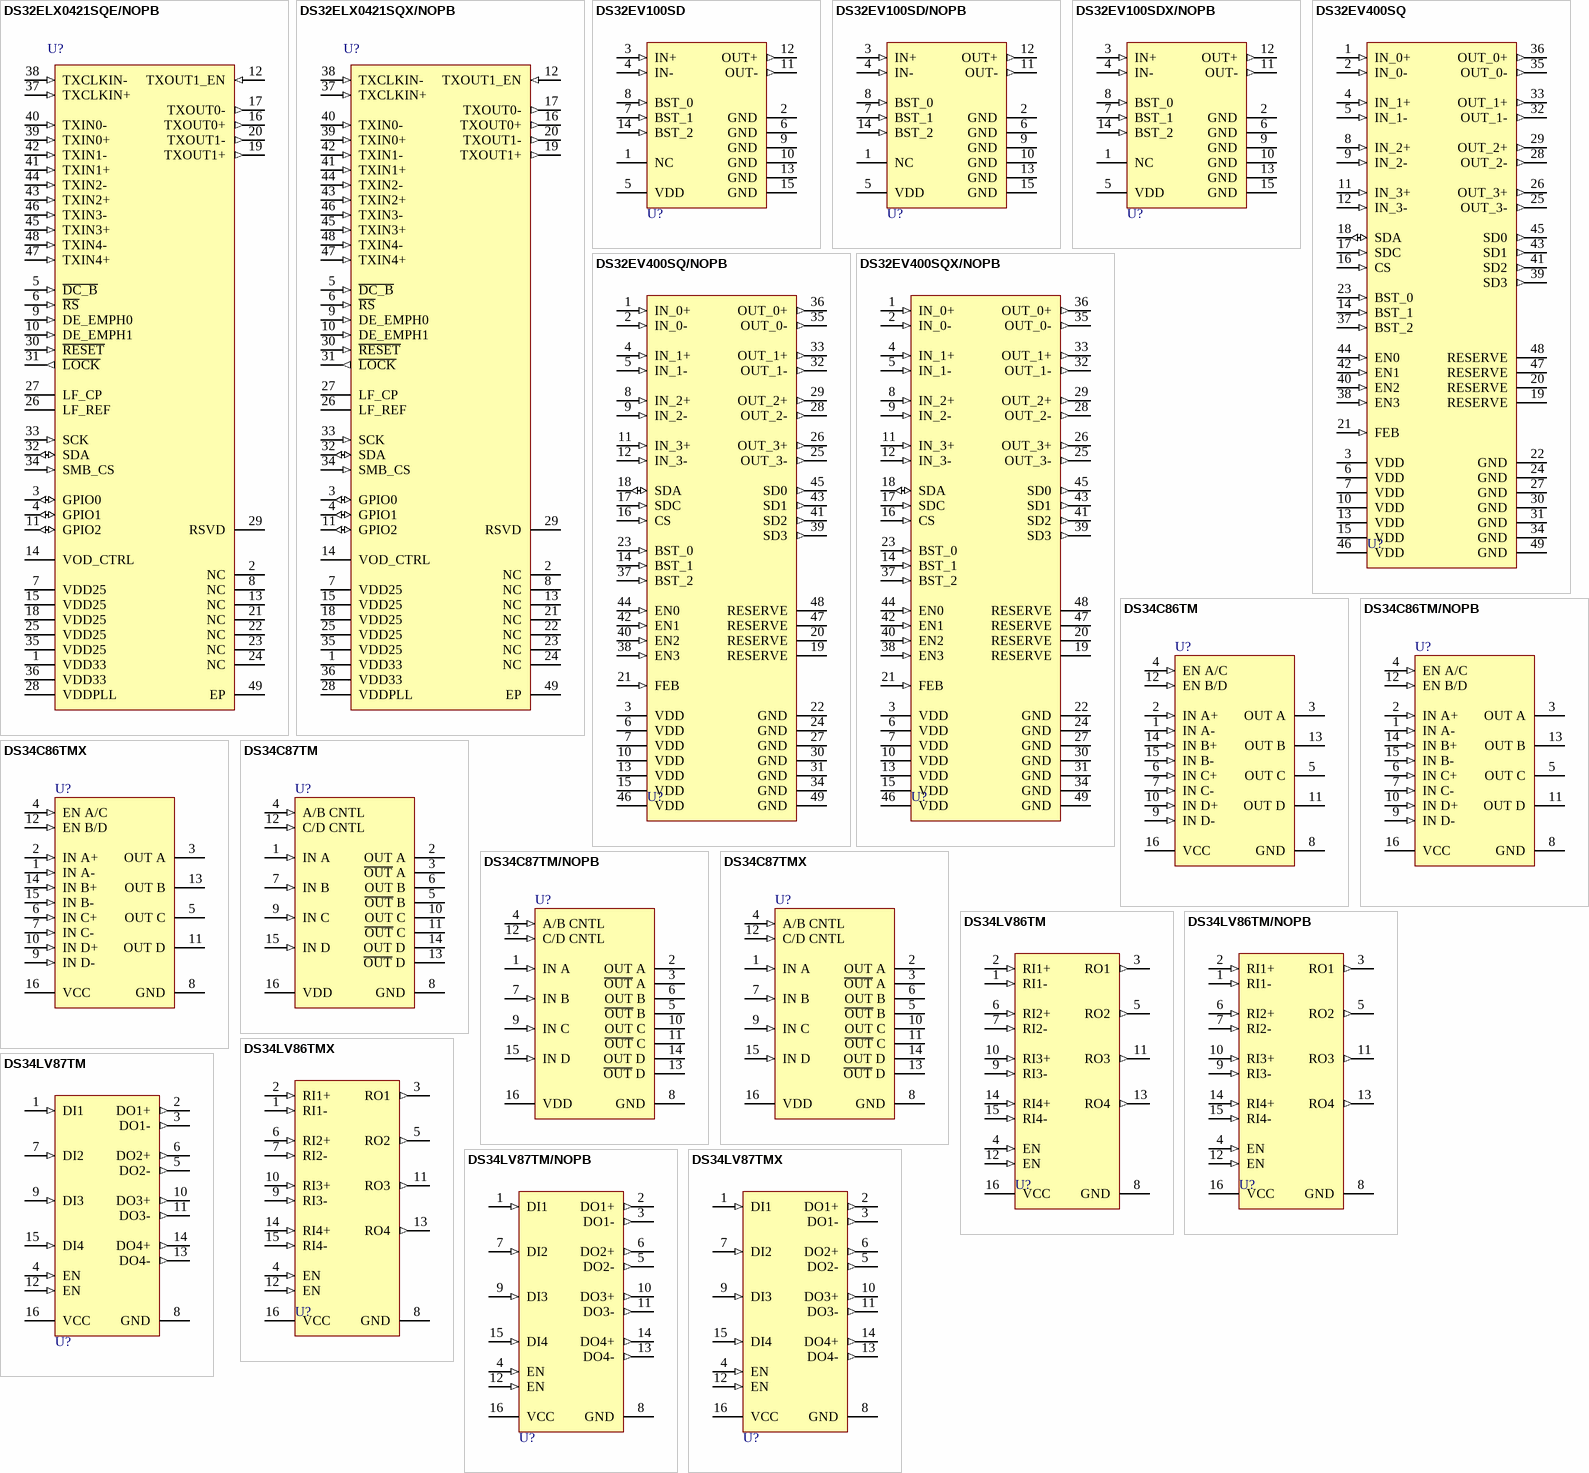
[diagram p24: symbols DS32ELX0421SQE/NOPB to DS34LV87TMX]

## DS32ELX0421SQE/NOPB
designator U?
125 - 312.5 MHz FPGA-Link Serializer with DDR LVDS Parallel Interface, 48-pin LLP, Pb-Free; PartNumber: DS32ELX0421SQE/NOPB; Manufacturer: National Semiconductor; PackageTopMarking: NS*UZXYTTE#*32ELX0421; PowerWise: N; CompType: Interface IC; High-Reliability: Y; DatasheetVersion: Jul-2008; PackageVersion: revB, May-2009; PackageReference: SQA48A; PackageDescription: LLP, Plastic, Quad, 7 x 7 x 0.8mm Body, 48 Lead, 0.5mm Pitch, No Pullback; RoHS: Y; PinCount: 48; Code_JEDEC: MO-220-WKKD-2; ComponentLink1Description: Manufacturer URL; ComponentLink1URL: http://www.national.com/; ComponentLink2Description: DS32ELX0421 Datasheet; ComponentLink2URL: http://www.national.com/ds/DS/DS32ELX0421.pdf; ComponentLink3Description: DS32ELX0421 Web Page; ComponentLink3URL: http://www.national.com/pf/DS/DS32ELX0421.html; ComponentLink4Description: SQA48A Package Page; ComponentLink4URL: http://www.national.com/packaging/folders/sqa48a.html
footprint SQA48A (QFN, 48-Leads, Body 7x7mm, Pitch 0.5mm, Thermal Pad 5.2x5.2mm, NSC Recommended)
pins: 1 VDD33 (power), 2 NC, 3 GPIO0 (io), 4 GPIO1 (io), 5 ~{DC_B} (in), 6 ~{RS} (in), 7 VDD25 (power), 8 NC, 9 DE_EMPH0 (in), 10 DE_EMPH1 (in), 11 GPIO2 (io), 12 TXOUT1_EN (in), 13 NC, 14 VOD_CTRL, 15 VDD25 (power), 16 TXOUT0+ (out), 17 TXOUT0- (out), 18 VDD25 (power), 19 TXOUT1+ (out), 20 TXOUT1- (out), 21 NC, 22 NC, 23 NC, 24 NC, 25 VDD25 (power), 26 LF_REF, 27 LF_CP, 28 VDDPLL (power), 29 RSVD, 30 ~{RESET} (in), 31 ~{LOCK} (out), 32 SDA (io), 33 SCK (in), 34 SMB_CS (in), 35 VDD25 (power), 36 VDD33 (power), 37 TXCLKIN+ (in), 38 TXCLKIN- (in), 39 TXIN0+ (in), 40 TXIN0- (in), 41 TXIN1+ (in), 42 TXIN1- (in), 43 TXIN2+ (in), 44 TXIN2- (in), 45 TXIN3+ (in), 46 TXIN3- (in), 47 TXIN4+ (in), 48 TXIN4- (in), 49 EP (power)

## DS32ELX0421SQX/NOPB
designator U?
125 - 312.5 MHz FPGA-Link Serializer with DDR LVDS Parallel Interface, 48-pin LLP, Pb-Free; PartNumber: DS32ELX0421SQX/NOPB; Manufacturer: National Semiconductor; PackageTopMarking: NS*UZXYTTE#*32ELX0421; PowerWise: N; CompType: Interface IC; High-Reliability: Y; DatasheetVersion: Jul-2008; PackageVersion: revB, May-2009; PackageReference: SQA48A; PackageDescription: LLP, Plastic, Quad, 7 x 7 x 0.8mm Body, 48 Lead, 0.5mm Pitch, No Pullback; RoHS: Y; PinCount: 48; Code_JEDEC: MO-220-WKKD-2; ComponentLink1Description: Manufacturer URL; ComponentLink1URL: http://www.national.com/; ComponentLink2Description: DS32ELX0421 Datasheet; ComponentLink2URL: http://www.national.com/ds/DS/DS32ELX0421.pdf; ComponentLink3Description: DS32ELX0421 Web Page; ComponentLink3URL: http://www.national.com/pf/DS/DS32ELX0421.html; ComponentLink4Description: SQA48A Package Page; ComponentLink4URL: http://www.national.com/packaging/folders/sqa48a.html
footprint SQA48A (QFN, 48-Leads, Body 7x7mm, Pitch 0.5mm, Thermal Pad 5.2x5.2mm, NSC Recommended)
pins: 1 VDD33 (power), 2 NC, 3 GPIO0 (io), 4 GPIO1 (io), 5 ~{DC_B} (in), 6 ~{RS} (in), 7 VDD25 (power), 8 NC, 9 DE_EMPH0 (in), 10 DE_EMPH1 (in), 11 GPIO2 (io), 12 TXOUT1_EN (in), 13 NC, 14 VOD_CTRL, 15 VDD25 (power), 16 TXOUT0+ (out), 17 TXOUT0- (out), 18 VDD25 (power), 19 TXOUT1+ (out), 20 TXOUT1- (out), 21 NC, 22 NC, 23 NC, 24 NC, 25 VDD25 (power), 26 LF_REF, 27 LF_CP, 28 VDDPLL (power), 29 RSVD, 30 ~{RESET} (in), 31 ~{LOCK} (out), 32 SDA (io), 33 SCK (in), 34 SMB_CS (in), 35 VDD25 (power), 36 VDD33 (power), 37 TXCLKIN+ (in), 38 TXCLKIN- (in), 39 TXIN0+ (in), 40 TXIN0- (in), 41 TXIN1+ (in), 42 TXIN1- (in), 43 TXIN2+ (in), 44 TXIN2- (in), 45 TXIN3+ (in), 46 TXIN3- (in), 47 TXIN4+ (in), 48 TXIN4- (in), 49 EP (power)

## DS32EV100SD
designator U?
Programmable Single Equalizer, 14-pin LLP; PartNumber: DS32EV100SD; Manufacturer: National Semiconductor; PackageTopMarking: ZXYTT*D32E1SD; PowerWise: N; CompType: Interface IC; High-Reliability: Y; DatasheetVersion: Aug-2009; PackageVersion: revA, Jun-2003; PackageReference: SDA14A; PackageDescription: LLP, Plastic, Dual, 4 x 3 x 0.8mm Body, 14 Lead, 0.5mm Pitch, No Pullback; RoHS: Y; PinCount: 14; ComponentLink1Description: Manufacturer URL; ComponentLink1URL: http://www.national.com/; ComponentLink2Description: DS32EV100 Datasheet; ComponentLink2URL: http://www.national.com/ds/DS/DS32EV100.pdf; ComponentLink3Description: DS32EV100 Web Page; ComponentLink3URL: http://www.national.com/pf/DS/DS32EV100.html; ComponentLink4Description: SDA14A Package Page; ComponentLink4URL: http://www.national.com/packaging/folders/sda14a.html
footprint SDA14A (SON, 14-Leads, Body 4x3mm, Pitch 0.5mm, NSC Recommended)
pins: 1 NC, 2 GND (power), 3 IN+ (in), 4 IN- (in), 5 VDD (power), 6 GND (power), 7 BST_1 (in), 8 BST_0 (in), 9 GND (power), 10 GND (power), 11 OUT- (out), 12 OUT+ (out), 13 GND (power), 14 BST_2 (in), 15 GND (power)

## DS32EV100SD/NOPB
designator U?
Programmable Single Equalizer, 14-pin LLP, Pb-Free; PartNumber: DS32EV100SD/NOPB; Manufacturer: National Semiconductor; PackageTopMarking: ZXYTTE#*D32E1SD; PowerWise: N; CompType: Interface IC; High-Reliability: Y; DatasheetVersion: Aug-2009; PackageVersion: revA, Jun-2003; PackageReference: SDA14A; PackageDescription: LLP, Plastic, Dual, 4 x 3 x 0.8mm Body, 14 Lead, 0.5mm Pitch, No Pullback; RoHS: Y; PinCount: 14; ComponentLink1Description: Manufacturer URL; ComponentLink1URL: http://www.national.com/; ComponentLink2Description: DS32EV100 Datasheet; ComponentLink2URL: http://www.national.com/ds/DS/DS32EV100.pdf; ComponentLink3Description: DS32EV100 Web Page; ComponentLink3URL: http://www.national.com/pf/DS/DS32EV100.html; ComponentLink4Description: SDA14A Package Page; ComponentLink4URL: http://www.national.com/packaging/folders/sda14a.html
footprint SDA14A (SON, 14-Leads, Body 4x3mm, Pitch 0.5mm, NSC Recommended)
pins: 1 NC, 2 GND (power), 3 IN+ (in), 4 IN- (in), 5 VDD (power), 6 GND (power), 7 BST_1 (in), 8 BST_0 (in), 9 GND (power), 10 GND (power), 11 OUT- (out), 12 OUT+ (out), 13 GND (power), 14 BST_2 (in), 15 GND (power)

## DS32EV100SDX/NOPB
designator U?
Programmable Single Equalizer, 14-pin LLP, Pb-Free; PartNumber: DS32EV100SDX/NOPB; Manufacturer: National Semiconductor; PackageTopMarking: ZXYTTE#*D32E1SD; PowerWise: N; CompType: Interface IC; High-Reliability: Y; DatasheetVersion: Aug-2009; PackageVersion: revA, Jun-2003; PackageReference: SDA14A; PackageDescription: LLP, Plastic, Dual, 4 x 3 x 0.8mm Body, 14 Lead, 0.5mm Pitch, No Pullback; RoHS: Y; PinCount: 14; ComponentLink1Description: Manufacturer URL; ComponentLink1URL: http://www.national.com/; ComponentLink2Description: DS32EV100 Datasheet; ComponentLink2URL: http://www.national.com/ds/DS/DS32EV100.pdf; ComponentLink3Description: DS32EV100 Web Page; ComponentLink3URL: http://www.national.com/pf/DS/DS32EV100.html; ComponentLink4Description: SDA14A Package Page; ComponentLink4URL: http://www.national.com/packaging/folders/sda14a.html
footprint SDA14A (SON, 14-Leads, Body 4x3mm, Pitch 0.5mm, NSC Recommended)
pins: 1 NC, 2 GND (power), 3 IN+ (in), 4 IN- (in), 5 VDD (power), 6 GND (power), 7 BST_1 (in), 8 BST_0 (in), 9 GND (power), 10 GND (power), 11 OUT- (out), 12 OUT+ (out), 13 GND (power), 14 BST_2 (in), 15 GND (power)

## DS32EV400SQ
designator U?
Programmable Quad Equalizer, 48-pin LLP; PartNumber: DS32EV400SQ; Manufacturer: National Semiconductor; PackageTopMarking: NS*UZXYTT*DS32EV400; PowerWise: Y; CompType: Interface IC; DatasheetVersion: Oct-2009; PackageVersion: revA, Jul-2004; PackageReference: SQA48D; PackageDescription: LLP, Quad, 7 x 7 x 0.8mm, 48 Lead, 0.5mm Pitch, 4.1 x 4.1 Exposed Pad; RoHS: Y; PinCount: 48; High-Reliability: Y; ComponentLink1Description: Manufacturer URL; ComponentLink1URL: http://www.national.com/; ComponentLink2Description: DS32EV400 Datasheet; ComponentLink2URL: http://www.national.com/ds/DS/DS32EV400.pdf; ComponentLink3Description: DS32EV400 Web Page; ComponentLink3URL: http://www.national.com/pf/DS/DS32EV400.html; ComponentLink4Description: SQA48D Package Page; ComponentLink4URL: http://www.national.com/packaging/folders/sqa48d.html
footprint SQA48D (QFN, 48-Leads, Body 7x7mm, Pitch 0.5mm, Thermal Pad 4.2x4.2mm, NSC Recommended)
pins: 1 IN_0+ (in), 2 IN_0- (in), 3 VDD (power), 4 IN_1+ (in), 5 IN_1- (in), 6 VDD (power), 7 VDD (power), 8 IN_2+ (in), 9 IN_2- (in), 10 VDD (power), 11 IN_3+ (in), 12 IN_3- (in), 13 VDD (power), 14 BST_1 (in), 15 VDD (power), 16 CS (in), 17 SDC (in), 18 SDA (io), 19 RESERVE, 20 RESERVE, 21 FEB (in), 22 GND (power), 23 BST_0 (in), 24 GND (power), 25 OUT_3- (out), 26 OUT_3+ (out), 27 GND (power), 28 OUT_2- (out), 29 OUT_2+ (out), 30 GND (power), 31 GND (power), 32 OUT_1- (out), 33 OUT_1+ (out), 34 GND (power), 35 OUT_0- (out), 36 OUT_0+ (out), 37 BST_2 (in), 38 EN3 (in), 39 SD3 (out), 40 EN2 (in), 41 SD2 (out), 42 EN1 (in), 43 SD1 (out), 44 EN0 (in), 45 SD0 (out), 46 VDD (power), 47 RESERVE, 48 RESERVE, 49 GND (power)

## DS32EV400SQ/NOPB
designator U?
DisplayPort Quad Equalizer, 48-pin LLP, Pb-Free; PartNumber: DS32EV400SQ/NOPB; Manufacturer: National Semiconductor; PackageTopMarking: NS*UZXYTTE#*DS32EV400; PowerWise: Y; CompType: Interface IC; DatasheetVersion: Oct-2009; PackageVersion: revA, Jul-2004; PackageReference: SQA48D; PackageDescription: LLP, Quad, 7 x 7 x 0.8mm, 48 Lead, 0.5mm Pitch, 4.1 x 4.1 Exposed Pad; RoHS: Y; PinCount: 48; High-Reliability: Y; ComponentLink1Description: Manufacturer URL; ComponentLink1URL: http://www.national.com/; ComponentLink2Description: DS32EV400 Datasheet; ComponentLink2URL: http://www.national.com/ds/DS/DS32EV400.pdf; ComponentLink3Description: DS32EV400 Web Page; ComponentLink3URL: http://www.national.com/pf/DS/DS32EV400.html; ComponentLink4Description: SQA48D Package Page; ComponentLink4URL: http://www.national.com/packaging/folders/sqa48d.html
footprint SQA48D (QFN, 48-Leads, Body 7x7mm, Pitch 0.5mm, Thermal Pad 4.2x4.2mm, NSC Recommended)
pins: 1 IN_0+ (in), 2 IN_0- (in), 3 VDD (power), 4 IN_1+ (in), 5 IN_1- (in), 6 VDD (power), 7 VDD (power), 8 IN_2+ (in), 9 IN_2- (in), 10 VDD (power), 11 IN_3+ (in), 12 IN_3- (in), 13 VDD (power), 14 BST_1 (in), 15 VDD (power), 16 CS (in), 17 SDC (in), 18 SDA (io), 19 RESERVE, 20 RESERVE, 21 FEB (in), 22 GND (power), 23 BST_0 (in), 24 GND (power), 25 OUT_3- (out), 26 OUT_3+ (out), 27 GND (power), 28 OUT_2- (out), 29 OUT_2+ (out), 30 GND (power), 31 GND (power), 32 OUT_1- (out), 33 OUT_1+ (out), 34 GND (power), 35 OUT_0- (out), 36 OUT_0+ (out), 37 BST_2 (in), 38 EN3 (in), 39 SD3 (out), 40 EN2 (in), 41 SD2 (out), 42 EN1 (in), 43 SD1 (out), 44 EN0 (in), 45 SD0 (out), 46 VDD (power), 47 RESERVE, 48 RESERVE, 49 GND (power)

## DS32EV400SQX/NOPB
designator U?
DisplayPort Quad Equalizer, 48-pin LLP, Pb-Free; PartNumber: DS32EV400SQX/NOPB; Manufacturer: National Semiconductor; PackageTopMarking: NS*UZXYTTE#*DS32EV400; PowerWise: Y; CompType: Interface IC; DatasheetVersion: Oct-2009; PackageVersion: revA, Jul-2004; PackageReference: SQA48D; PackageDescription: LLP, Quad, 7 x 7 x 0.8mm, 48 Lead, 0.5mm Pitch, 4.1 x 4.1 Exposed Pad; RoHS: Y; PinCount: 48; High-Reliability: Y; ComponentLink1Description: Manufacturer URL; ComponentLink1URL: http://www.national.com/; ComponentLink2Description: DS32EV400 Datasheet; ComponentLink2URL: http://www.national.com/ds/DS/DS32EV400.pdf; ComponentLink3Description: DS32EV400 Web Page; ComponentLink3URL: http://www.national.com/pf/DS/DS32EV400.html; ComponentLink4Description: SQA48D Package Page; ComponentLink4URL: http://www.national.com/packaging/folders/sqa48d.html
footprint SQA48D (QFN, 48-Leads, Body 7x7mm, Pitch 0.5mm, Thermal Pad 4.2x4.2mm, NSC Recommended)
pins: 1 IN_0+ (in), 2 IN_0- (in), 3 VDD (power), 4 IN_1+ (in), 5 IN_1- (in), 6 VDD (power), 7 VDD (power), 8 IN_2+ (in), 9 IN_2- (in), 10 VDD (power), 11 IN_3+ (in), 12 IN_3- (in), 13 VDD (power), 14 BST_1 (in), 15 VDD (power), 16 CS (in), 17 SDC (in), 18 SDA (io), 19 RESERVE, 20 RESERVE, 21 FEB (in), 22 GND (power), 23 BST_0 (in), 24 GND (power), 25 OUT_3- (out), 26 OUT_3+ (out), 27 GND (power), 28 OUT_2- (out), 29 OUT_2+ (out), 30 GND (power), 31 GND (power), 32 OUT_1- (out), 33 OUT_1+ (out), 34 GND (power), 35 OUT_0- (out), 36 OUT_0+ (out), 37 BST_2 (in), 38 EN3 (in), 39 SD3 (out), 40 EN2 (in), 41 SD2 (out), 42 EN1 (in), 43 SD1 (out), 44 EN0 (in), 45 SD0 (out), 46 VDD (power), 47 RESERVE, 48 RESERVE, 49 GND (power)

## DS34C86TM
designator U?
Quad CMOS Differential Line Receiver, 16-pin Narrow SOIC; PartNumber: DS34C86TM; Manufacturer: National Semiconductor; PackageTopMarking: NSUZXYTTE#*DS34C86TM; PowerWise: N; CompType: Interface IC; High-Reliability: Y; DatasheetVersion: Jun-1998; PackageVersion: revJ, Aug-1995; PackageReference: M16A; PackageDescription: Molded Package, SO, .150in Wide, 16 Lead; RoHS: N; PinCount: 16; Code_JEDEC: MS-012-AC; Code_IPC: SOIC127P600-16; ComponentLink1Description: Manufacturer URL; ComponentLink1URL: http://www.national.com/; ComponentLink2Description: DS34C86T Datasheet; ComponentLink2URL: http://www.national.com/ds/DS/DS34C86T.pdf; ComponentLink3Description: DS34C86T Web Page; ComponentLink3URL: http://www.national.com/pf/DS/DS34C86T.html; ComponentLink4Description: M16A Package Page; ComponentLink4URL: http://www.national.com/packaging/folders/m16a.html
footprint M16A_N (SOIC, 16-Leads, Body 9.9x3.9mm, Pitch 1.27mm, IPC Medium Density)
footprint M16A_L (SOIC, 16-Leads, Body 9.9x3.9mm, Pitch 1.27mm, IPC High Density)
footprint M16A_M (SOIC, 16-Leads, Body 9.9x3.9mm, Pitch 1.27mm, IPC Low Density)
pins: 1 IN A- (in), 2 IN A+ (in), 3 OUT A (hiz), 4 EN A/C (in), 5 OUT C (hiz), 6 IN C+ (in), 7 IN C- (in), 8 GND (power), 9 IN D- (in), 10 IN D+ (in), 11 OUT D (hiz), 12 EN B/D (in), 13 OUT B (hiz), 14 IN B+ (in), 15 IN B- (in), 16 VCC (power)

## DS34C86TM/NOPB
designator U?
Quad CMOS Differential Line Receiver, 16-pin Narrow SOIC, Pb-Free; PartNumber: DS34C86TM/NOPB; Manufacturer: National Semiconductor; PackageTopMarking: NSUZXYTTE#*DS34C86TM; PowerWise: N; CompType: Interface IC; High-Reliability: Y; DatasheetVersion: Jun-1998; PackageVersion: revJ, Aug-1995; PackageReference: M16A; PackageDescription: Molded Package, SO, .150in Wide, 16 Lead; RoHS: Y; PinCount: 16; Code_JEDEC: MS-012-AC; Code_IPC: SOIC127P600-16; ComponentLink1Description: Manufacturer URL; ComponentLink1URL: http://www.national.com/; ComponentLink2Description: DS34C86T Datasheet; ComponentLink2URL: http://www.national.com/ds/DS/DS34C86T.pdf; ComponentLink3Description: DS34C86T Web Page; ComponentLink3URL: http://www.national.com/pf/DS/DS34C86T.html; ComponentLink4Description: M16A Package Page; ComponentLink4URL: http://www.national.com/packaging/folders/m16a.html
footprint M16A_N (SOIC, 16-Leads, Body 9.9x3.9mm, Pitch 1.27mm, IPC Medium Density)
footprint M16A_L (SOIC, 16-Leads, Body 9.9x3.9mm, Pitch 1.27mm, IPC High Density)
footprint M16A_M (SOIC, 16-Leads, Body 9.9x3.9mm, Pitch 1.27mm, IPC Low Density)
pins: 1 IN A- (in), 2 IN A+ (in), 3 OUT A (hiz), 4 EN A/C (in), 5 OUT C (hiz), 6 IN C+ (in), 7 IN C- (in), 8 GND (power), 9 IN D- (in), 10 IN D+ (in), 11 OUT D (hiz), 12 EN B/D (in), 13 OUT B (hiz), 14 IN B+ (in), 15 IN B- (in), 16 VCC (power)

## DS34C86TMX
designator U?
Quad CMOS Differential Line Receiver, 16-pin Narrow SOIC; PartNumber: DS34C86TMX; Manufacturer: National Semiconductor; PackageTopMarking: NSUZXYTTE#*DS34C86TM; PowerWise: N; CompType: Interface IC; High-Reliability: Y; DatasheetVersion: Jun-1998; PackageVersion: revJ, Aug-1995; PackageReference: M16A; PackageDescription: Molded Package, SO, .150in Wide, 16 Lead; RoHS: N; PinCount: 16; Code_JEDEC: MS-012-AC; Code_IPC: SOIC127P600-16; ComponentLink1Description: Manufacturer URL; ComponentLink1URL: http://www.national.com/; ComponentLink2Description: DS34C86T Datasheet; ComponentLink2URL: http://www.national.com/ds/DS/DS34C86T.pdf; ComponentLink3Description: DS34C86T Web Page; ComponentLink3URL: http://www.national.com/pf/DS/DS34C86T.html; ComponentLink4Description: M16A Package Page; ComponentLink4URL: http://www.national.com/packaging/folders/m16a.html
footprint M16A_N (SOIC, 16-Leads, Body 9.9x3.9mm, Pitch 1.27mm, IPC Medium Density)
footprint M16A_L (SOIC, 16-Leads, Body 9.9x3.9mm, Pitch 1.27mm, IPC High Density)
footprint M16A_M (SOIC, 16-Leads, Body 9.9x3.9mm, Pitch 1.27mm, IPC Low Density)
pins: 1 IN A- (in), 2 IN A+ (in), 3 OUT A (hiz), 4 EN A/C (in), 5 OUT C (hiz), 6 IN C+ (in), 7 IN C- (in), 8 GND (power), 9 IN D- (in), 10 IN D+ (in), 11 OUT D (hiz), 12 EN B/D (in), 13 OUT B (hiz), 14 IN B+ (in), 15 IN B- (in), 16 VCC (power)

## DS34C87TM
designator U?
CMOS Quad Tri-State Differential Line Driver, 16-pin Narrow SOIC; PartNumber: DS34C87TM; Manufacturer: National Semiconductor; PackageTopMarking: NSUZXYTTE#*DS34C87TM; PowerWise: N; CompType: Interface IC; High-Reliability: Y; DatasheetVersion: Apr-2002; PackageVersion: revJ, Aug-1995; PackageReference: M16A; PackageDescription: Molded Package, SO, .150in Wide, 16 Lead; RoHS: N; PinCount: 16; Code_JEDEC: MS-012-AC; Code_IPC: SOIC127P600-16; ComponentLink1Description: Manufacturer URL; ComponentLink1URL: http://www.national.com/; ComponentLink2Description: DS34C87T Datasheet; ComponentLink2URL: http://www.national.com/ds/DS/DS34C87T.pdf; ComponentLink3Description: DS34C87T Web Page; ComponentLink3URL: http://www.national.com/pf/DS/DS34C87T.html; ComponentLink4Description: M16A Package Page; ComponentLink4URL: http://www.national.com/packaging/folders/m16a.html
footprint M16A_N (SOIC, 16-Leads, Body 9.9x3.9mm, Pitch 1.27mm, IPC Medium Density)
footprint M16A_L (SOIC, 16-Leads, Body 9.9x3.9mm, Pitch 1.27mm, IPC High Density)
footprint M16A_M (SOIC, 16-Leads, Body 9.9x3.9mm, Pitch 1.27mm, IPC Low Density)
pins: 1 IN A (in), 2 OUT A (hiz), 3 ~{OUT} A (hiz), 4 A/B CNTL (in), 5 ~{OUT} B (hiz), 6 OUT B (hiz), 7 IN B (in), 8 GND (power), 9 IN C (in), 10 OUT C (hiz), 11 ~{OUT} C (hiz), 12 C/D CNTL (in), 13 ~{OUT} D (hiz), 14 OUT D (hiz), 15 IN D (in), 16 VDD (power)

## DS34C87TM/NOPB
designator U?
CMOS Quad Tri-State Differential Line Driver, 16-pin Narrow SOIC, Pb-Free; PartNumber: DS34C87TM/NOPB; Manufacturer: National Semiconductor; PackageTopMarking: NSUZXYTTE#*DS34C87TM; PowerWise: N; CompType: Interface IC; High-Reliability: Y; DatasheetVersion: Apr-2002; PackageVersion: revJ, Aug-1995; PackageReference: M16A; PackageDescription: Molded Package, SO, .150in Wide, 16 Lead; RoHS: Y; PinCount: 16; Code_JEDEC: MS-012-AC; Code_IPC: SOIC127P600-16; ComponentLink1Description: Manufacturer URL; ComponentLink1URL: http://www.national.com/; ComponentLink2Description: DS34C87T Datasheet; ComponentLink2URL: http://www.national.com/ds/DS/DS34C87T.pdf; ComponentLink3Description: DS34C87T Web Page; ComponentLink3URL: http://www.national.com/pf/DS/DS34C87T.html; ComponentLink4Description: M16A Package Page; ComponentLink4URL: http://www.national.com/packaging/folders/m16a.html
footprint M16A_N (SOIC, 16-Leads, Body 9.9x3.9mm, Pitch 1.27mm, IPC Medium Density)
footprint M16A_L (SOIC, 16-Leads, Body 9.9x3.9mm, Pitch 1.27mm, IPC High Density)
footprint M16A_M (SOIC, 16-Leads, Body 9.9x3.9mm, Pitch 1.27mm, IPC Low Density)
pins: 1 IN A (in), 2 OUT A (hiz), 3 ~{OUT} A (hiz), 4 A/B CNTL (in), 5 ~{OUT} B (hiz), 6 OUT B (hiz), 7 IN B (in), 8 GND (power), 9 IN C (in), 10 OUT C (hiz), 11 ~{OUT} C (hiz), 12 C/D CNTL (in), 13 ~{OUT} D (hiz), 14 OUT D (hiz), 15 IN D (in), 16 VDD (power)

## DS34C87TMX
designator U?
CMOS Quad Tri-State Differential Line Driver, 16-pin Narrow SOIC; PartNumber: DS34C87TMX; Manufacturer: National Semiconductor; PackageTopMarking: NSUZXYTTE#*DS34C87TM; PowerWise: N; CompType: Interface IC; High-Reliability: Y; DatasheetVersion: Apr-2002; PackageVersion: revJ, Aug-1995; PackageReference: M16A; PackageDescription: Molded Package, SO, .150in Wide, 16 Lead; RoHS: N; PinCount: 16; Code_JEDEC: MS-012-AC; Code_IPC: SOIC127P600-16; ComponentLink1Description: Manufacturer URL; ComponentLink1URL: http://www.national.com/; ComponentLink2Description: DS34C87T Datasheet; ComponentLink2URL: http://www.national.com/ds/DS/DS34C87T.pdf; ComponentLink3Description: DS34C87T Web Page; ComponentLink3URL: http://www.national.com/pf/DS/DS34C87T.html; ComponentLink4Description: M16A Package Page; ComponentLink4URL: http://www.national.com/packaging/folders/m16a.html
footprint M16A_N (SOIC, 16-Leads, Body 9.9x3.9mm, Pitch 1.27mm, IPC Medium Density)
footprint M16A_L (SOIC, 16-Leads, Body 9.9x3.9mm, Pitch 1.27mm, IPC High Density)
footprint M16A_M (SOIC, 16-Leads, Body 9.9x3.9mm, Pitch 1.27mm, IPC Low Density)
pins: 1 IN A (in), 2 OUT A (hiz), 3 ~{OUT} A (hiz), 4 A/B CNTL (in), 5 ~{OUT} B (hiz), 6 OUT B (hiz), 7 IN B (in), 8 GND (power), 9 IN C (in), 10 OUT C (hiz), 11 ~{OUT} C (hiz), 12 C/D CNTL (in), 13 ~{OUT} D (hiz), 14 OUT D (hiz), 15 IN D (in), 16 VDD (power)

## DS34LV86TM
designator U?
3V Enhanced CMOS Quad Differential Line Receiver, 16-pin Narrow SOIC; PartNumber: DS34LV86TM; Manufacturer: National Semiconductor; PackageTopMarking: NSUZXYTTE#*DS34LV86*TM; PowerWise: N; CompType: Interface IC; High-Reliability: Y; DatasheetVersion: Sep-2008; PackageVersion: revJ, Aug-1995; PackageReference: M16A; PackageDescription: Molded Package, SO, .150in Wide, 16 Lead; RoHS: N; PinCount: 16; Code_JEDEC: MS-012-AC; Code_IPC: SOIC127P600-16; ComponentLink1Description: Manufacturer URL; ComponentLink1URL: http://www.national.com/; ComponentLink2Description: DS34LV86T Datasheet; ComponentLink2URL: http://www.national.com/ds/DS/DS34LV86T.pdf; ComponentLink3Description: DS34LV86T Web Page; ComponentLink3URL: http://www.national.com/pf/DS/DS34LV86T.html; ComponentLink4Description: M16A Package Page; ComponentLink4URL: http://www.national.com/packaging/folders/m16a.html
footprint M16A_N (SOIC, 16-Leads, Body 9.9x3.9mm, Pitch 1.27mm, IPC Medium Density)
footprint M16A_L (SOIC, 16-Leads, Body 9.9x3.9mm, Pitch 1.27mm, IPC High Density)
footprint M16A_M (SOIC, 16-Leads, Body 9.9x3.9mm, Pitch 1.27mm, IPC Low Density)
pins: 1 RI1- (in), 2 RI1+ (in), 3 RO1 (out), 4 EN (in), 5 RO2 (out), 6 RI2+ (in), 7 RI2- (in), 8 GND (power), 9 RI3- (in), 10 RI3+ (in), 11 RO3 (out), 12 EN (in), 13 RO4 (out), 14 RI4+ (in), 15 RI4- (in), 16 VCC (power)